# EAGLE library part JUMPER-6P (library F030NG)
PIN HEADER
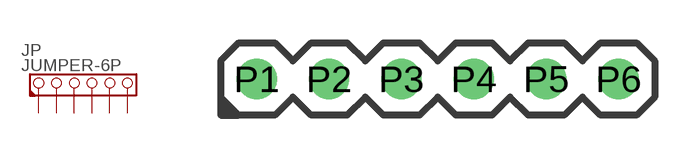
[diagram p85: symbol with the pads of PH_1X06; footprint PH_1X06]

Designator prefix JP

## JUMPER-6P  [PH_1X06]
P1  1  pas
P2  2  pas
P3  3  pas
P4  4  pas
P5  5  pas
P6  6  pas

## Footprint PH_1X06 (pad centres in mm)
PIN HEADER
drill 0.9: P1 -1.27,0; P2 1.27,0; P3 3.81,0; P4 6.35,0; P5 8.89,0; P6 11.43,0